# Altium footprint library Sensor - Temperature.PcbLib: 3 footprints
Each footprint in its own frame and in the unit in brackets; x right, y up, seen from the top. Pads: shape width x height; smd on the part's side, far side on the other; paste and mask are expansions set on the pad; w line width, h text height; cw(c..) or ccw(c..) is an arc to the next point about the centre after c.
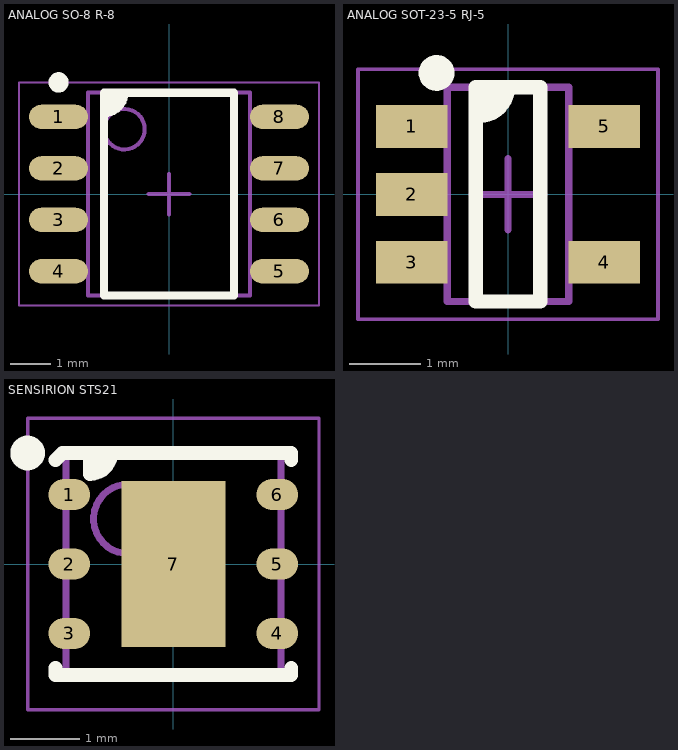
[diagram p0: the footprints below, top view; thin cyan lines are the x and y axes]

## ANALOG SO-8 R-8 [mm] "SOIC, 8-Leads, Body 4.90x3.90mm, Pitch 1.27mm, IPC Medium Density"
height 1.75
pads (8):
  oval 1.45x0.6 smd: 1(-2.725,1.905) 2(-2.725,0.635) 3(-2.725,-0.635) 4(-2.725,-1.905) 5(2.725,-1.905) 6(2.725,-0.635) 7(2.725,0.635) 8(2.725,1.905)
Top Overlay:
  circle w0.25: c-2.725,2.755 r0.125
  region: -1.6,2.5 -1.1,2.5 -1.1,2.3 -1.4,2 -1.6,2
  lines w0.2: -1.6,2 ccw(c-1.6,2.5) -1.1,2.5 ; -1.6,-2.5 1.6,-2.5 1.6,2.5 -1.6,2.5 -1.6,-2.5
Mechanical 13:
  circle w0.1: c-1.1,1.6 r0.5
  lines w0.1: -2,-2.5 2,-2.5 2,2.5 -2,2.5 -2,-2.5
Mechanical 15:
  lines w0.05: -3.7,-2.75 3.7,-2.75 3.7,2.75 -3.7,2.75 -3.7,-2.75
  lines w0.1: -0.5,0 0.5,0 ; 0,-0.5 0,0.5
3D body "ANALOG SO-8 R-8.step": height 1.75, standoff 0, extent -3,-2.5 3,2.5

## ANALOG SOT-23-5 RJ-5 [mm] "SOT23, 5-Leads, Body 2.90x2.80mm, Pitch 0.95mm, IPC Medium Density"
height 1.3
pads (5):
  rect 1x0.6 smd: 1(-1.35,0.95) 2(-1.35,0) 3(-1.35,-0.95) 4(1.35,-0.95) 5(1.35,0.95)
Top Overlay:
  circle w0.25: c-1,1.7 r0.125
  region: -0.45,1.5 0,1.5 0,1.4 -0.3,1.1 -0.45,1.1
  lines w0.2: -0.45,1.1 -0.4,1.1 ccw(c-0.4,1.5) 0,1.5 ; -0.45,-1.5 -0.45,1.5 0.45,1.5 0.45,-1.5 -0.45,-1.5
Mechanical 13:
  lines w0.1: -0.85,-1.5 0.85,-1.5 0.85,1.5 -0.85,1.5 -0.85,-1.5
Mechanical 15:
  lines w0.05: -2.1,-1.75 2.1,-1.75 2.1,1.75 -2.1,1.75 -2.1,-1.75
  lines w0.1: -0.5,0 0.5,0 ; 0,-0.5 0,0.5
3D body "SOT-23-5.STEP": height 1.5, standoff 0, extent -1.411,-1.45 1.41,1.45

## SENSIRION STS21 [mm] "DFN, 6-Leads, Body 3.00x3.00mm, Pitch 1.00mm, Thermal Pad 1.50x2.40mm, IPC Medium Density"
height 1.1
pads (7):
  oval 0.6x0.45 smd: 1(-1.5,1) 2(-1.5,0) 3(-1.5,-1) 4(1.5,-1) 5(1.5,0) 6(1.5,1)
  rect 1.5x2.4 smd: 7(0,0)
Top Overlay:
  circle w0.25: c-2.1,1.6 r0.125
  region: -0.9,1.6 -1.2,1.6 -1.2,1.3
  lines w0.2: -1.7,-1.5 -1.7,-1.6 1.7,-1.6 1.7,-1.5 ; -1.7,1.5 -1.6,1.6 1.7,1.6 1.7,1.5 ; -1.2,1.6 -1.2,1.3 ccw(c-1.2,1.6) -0.9,1.6
Mechanical 13:
  circle w0.1: c-0.65,0.65 r0.5
  lines w0.1: -1.55,-1.55 -1.55,1.55 1.55,1.55 1.55,-1.55 -1.55,-1.55
Mechanical 15:
  lines w0.05: -2.1,-2.1 -2.1,2.1 2.1,2.1 2.1,-2.1 -2.1,-2.1
  lines w0.1: -0.5,0 0.5,0 ; 0,-0.5 0,0.5
3D body "SENSIRION STS21.STEP": height 1.1, standoff 0, extent -1.5,-1.5 1.5,1.5